# EAGLE library part CHB350 (library DC-DC Module)
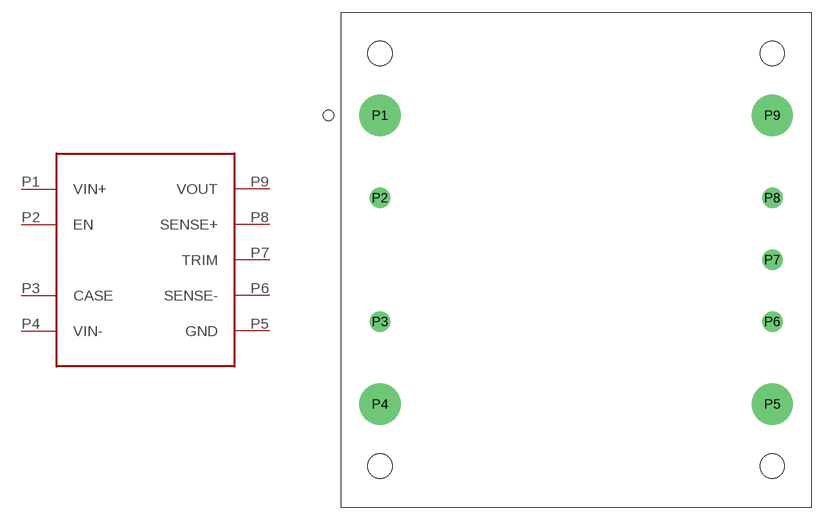
[diagram p0: symbol with the pads of CHB350HALFBRICK; footprint CHB350HALFBRICK]

Designator prefix -

## CHB350  [CHB350HALFBRICK]
P1  VIN+
P2  EN
P3  CASE
P4  VIN-
P5  GND
P6  SENSE-
P7  TRIM
P8  SENSE+
P9  VOUT

## Footprint CHB350HALFBRICK (pad centres in mm)
drill 2.388 pad 5.08: P1 -24.13,17.78; P4 -24.13,-17.78; P5 24.13,-17.78; P9 24.13,17.78
drill 1.372 pad 2.54: P2 -24.13,7.62; P3 -24.13,-7.62; P6 24.13,-7.62; P7 24.13,0; P8 24.13,7.62
hole 2.972 at -24.13,-25.4
hole 2.972 at -24.13,25.4
hole 2.972 at 24.13,25.4
hole 2.972 at 24.13,-25.4